# Altium schematic symbol library digital_logic.SchLib: 15 symbols
Pins are listed as number, name and electrical type; pins without a type are passive.

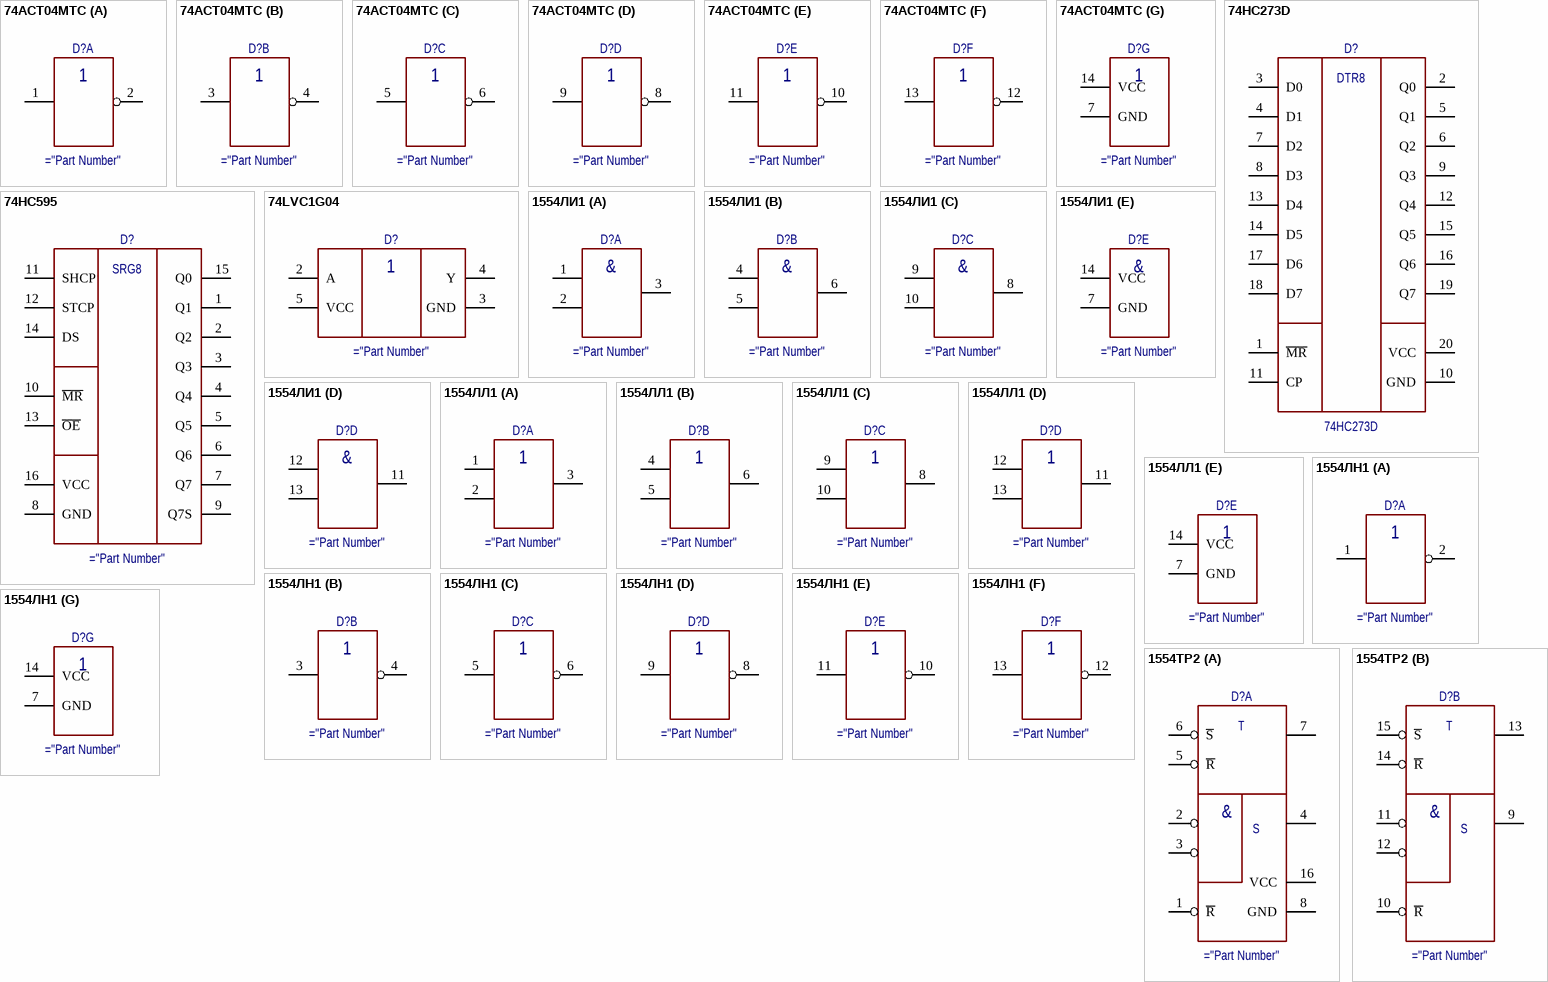
[diagram p0: symbols 74ACT04MTC to 1554ТР2]

## 74ACT04MTC
designator D?
6 элементов НЕ
part A pins: 1 X1, 2 Y1
part B pins: 3 X2, 4 Y2
part C pins: 5 X3, 6 Y3
part D pins: 8 Y4, 9 X4
part E pins: 10 Y5, 11 X5
part F pins: 12 Y6, 13 X6
part G pins: 7 GND, 14 VCC

## 74HC273D
designator D?
Восемь D-триггеров со сбросом; Part number: 74HC273D
pins: 1 ~{MR}, 2 Q0, 3 D0, 4 D1, 5 Q1, 6 Q2, 7 D2, 8 D3, 9 Q3, 10 GND, 11 CP, 12 Q4, 13 D4, 14 D5, 15 Q5, 16 Q6, 17 D6, 18 D7, 19 Q7, 20 VCC
text: DTR8

## 74HC595
designator D?
Shift Register 8-bit
pins: 1 Q1, 2 Q2, 3 Q3, 4 Q4, 5 Q5, 6 Q6, 7 Q7, 8 GND, 9 Q7S, 10 ~{MR}, 11 SHCP, 12 STCP, 13 ~{OE}, 14 DS, 15 Q0, 16 VCC
text: SRG8

## 74LVC1G04
designator D?
Single inverter, single direction
pins: 1 NC hidden, 2 A, 3 GND, 4 Y, 5 VCC

## 1554ЛИ1
designator D?
4 элемента 2И
part A pins: 1 A1, 2 B1, 3 Y1
part B pins: 4 A2, 5 B2, 6 Y2
part C pins: 8 Y3, 9 A3, 10 B3
part D pins: 11 Y4, 12 A4, 13 B4
part E pins: 7 GND, 14 VCC
part A text: &
part B text: &
part C text: &
part D text: &
part E text: &

## 1554ЛЛ1
designator D?
4 элемента 2ИЛИ
part A pins: 1 A1, 2 B1, 3 Y1
part B pins: 4 A2, 5 B2, 6 Y2
part C pins: 8 Y3, 9 A3, 10 B3
part D pins: 11 Y4, 12 A4, 13 B4
part E pins: 7 GND, 14 VCC

## 1554ЛН1
designator D?
6 элементов НЕ
part A pins: 1 X1, 2 Y1
part B pins: 3 X2, 4 Y2
part C pins: 5 X3, 6 Y3
part D pins: 8 Y4, 9 X4
part E pins: 10 Y5, 11 X5
part F pins: 12 Y6, 13 X6
part G pins: 7 GND, 14 VCC

## 1554ТР2
designator D?
4 RS триггера
part A pins: 1 ~{R}, 2 ~{1S1}, 3 ~{1S2}, 4 1Q, 5 ~{R}, 6 ~{S}, 7 2Q, 8 GND, 16 VCC
part B pins: 9 3Q, 10 ~{R}, 11 ~{3S1}, 12 ~{3S2}, 13 4Q, 14 ~{R}, 15 ~{S}
part A text: T; &; S
part B text: T; &; S

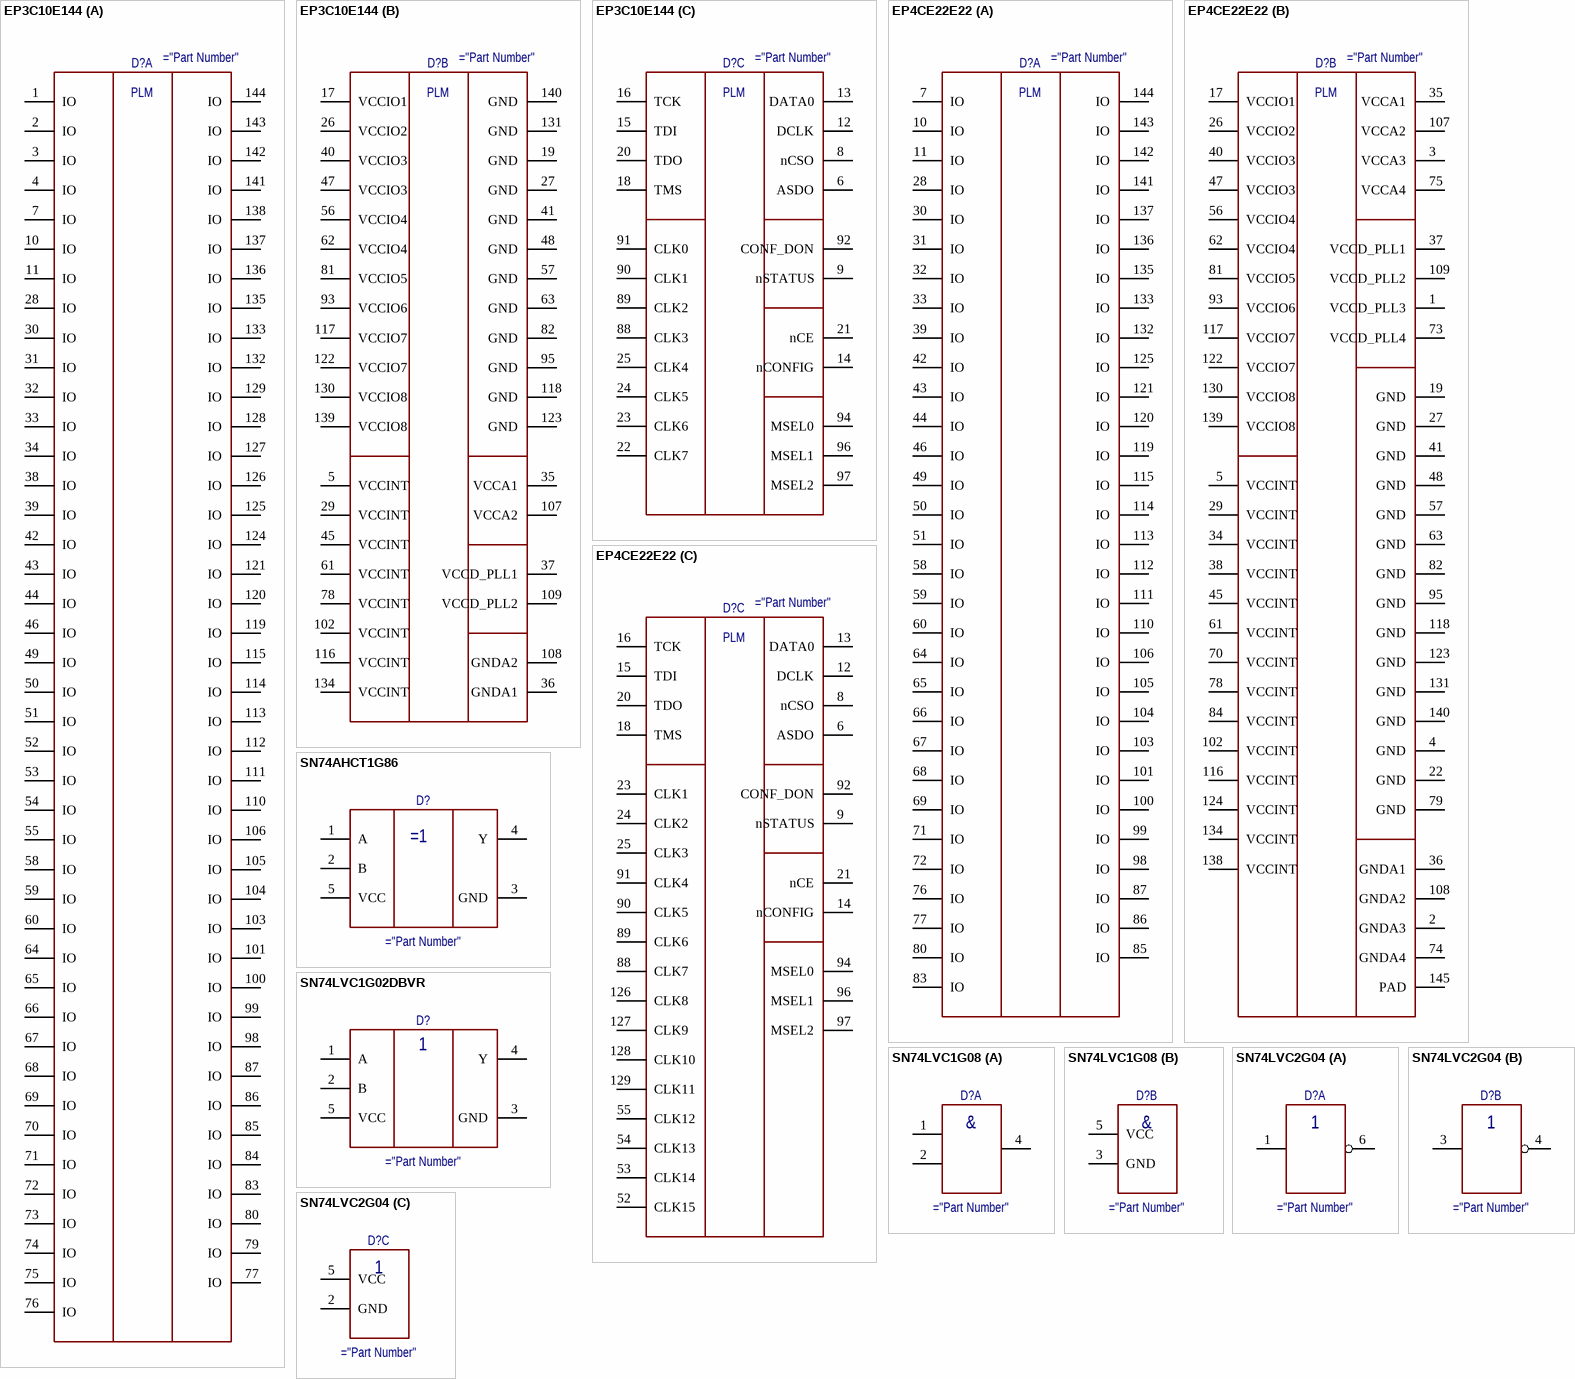
[diagram p1: symbols EP3C10E144 to SN74LVC2G04]

## EP3C10E144
designator D?
FPGA Cyclone III
part A pins: 1 IO, 2 IO, 3 IO, 4 IO, 7 IO, 10 IO, 11 IO, 28 IO, 30 IO, 31 IO, 32 IO, 33 IO, 34 IO, 38 IO, 39 IO, 42 IO, 43 IO, 44 IO, 46 IO, 49 IO, 50 IO, 51 IO, 52 IO, 53 IO, 54 IO, 55 IO, 58 IO, 59 IO, 60 IO, 64 IO, 65 IO, 66 IO, 67 IO, 68 IO, 69 IO, 70 IO, 71 IO, 72 IO, 73 IO, 74 IO, 75 IO, 76 IO, 77 IO, 79 IO, 80 IO, 83 IO, 84 IO, 85 IO, 86 IO, 87 IO, 98 IO, 99 IO, 100 IO, 101 IO, 103 IO, 104 IO, 105 IO, 106 IO, 110 IO, 111 IO, 112 IO, 113 IO, 114 IO, 115 IO, 119 IO, 120 IO, 121 IO, 124 IO, 125 IO, 126 IO, 127 IO, 128 IO, 129 IO, 132 IO, 133 IO, 135 IO, 136 IO, 137 IO, 138 IO, 141 IO, 142 IO, 143 IO, 144 IO
part B pins: 5 VCCINT, 17 VCCIO1, 19 GND, 26 VCCIO2, 27 GND, 29 VCCINT, 35 VCCA1, 36 GNDA1, 37 VCCD_PLL1, 40 VCCIO3, 41 GND, 45 VCCINT, 47 VCCIO3, 48 GND, 56 VCCIO4, 57 GND, 61 VCCINT, 62 VCCIO4, 63 GND, 78 VCCINT, 81 VCCIO5, 82 GND, 93 VCCIO6, 95 GND, 102 VCCINT, 107 VCCA2, 108 GNDA2, 109 VCCD_PLL2, 116 VCCINT, 117 VCCIO7, 118 GND, 122 VCCIO7, 123 GND, 130 VCCIO8, 131 GND, 134 VCCINT, 139 VCCIO8, 140 GND
part C pins: 6 ASDO, 8 nCSO, 9 nSTATUS, 12 DCLK, 13 DATA0, 14 nCONFIG, 15 TDI, 16 TCK, 18 TMS, 20 TDO, 21 nCE, 22 CLK7, 23 CLK6, 24 CLK5, 25 CLK4, 88 CLK3, 89 CLK2, 90 CLK1, 91 CLK0, 92 CONF_DON, 94 MSEL0, 96 MSEL1, 97 MSEL2
part A text: PLM
part B text: PLM
part C text: PLM

## EP4CE22E22
designator D?
FPGA Cyclone IV E
part A pins: 7 IO, 10 IO, 11 IO, 28 IO, 30 IO, 31 IO, 32 IO, 33 IO, 39 IO, 42 IO, 43 IO, 44 IO, 46 IO, 49 IO, 50 IO, 51 IO, 58 IO, 59 IO, 60 IO, 64 IO, 65 IO, 66 IO, 67 IO, 68 IO, 69 IO, 71 IO, 72 IO, 76 IO, 77 IO, 80 IO, 83 IO, 85 IO, 86 IO, 87 IO, 98 IO, 99 IO, 100 IO, 101 IO, 103 IO, 104 IO, 105 IO, 106 IO, 110 IO, 111 IO, 112 IO, 113 IO, 114 IO, 115 IO, 119 IO, 120 IO, 121 IO, 125 IO, 132 IO, 133 IO, 135 IO, 136 IO, 137 IO, 141 IO, 142 IO, 143 IO, 144 IO
part B pins: 1 VCCD_PLL3, 2 GNDA3, 3 VCCA3, 4 GND, 5 VCCINT, 17 VCCIO1, 19 GND, 22 GND, 26 VCCIO2, 27 GND, 29 VCCINT, 34 VCCINT, 35 VCCA1, 36 GNDA1, 37 VCCD_PLL1, 38 VCCINT, 40 VCCIO3, 41 GND, 45 VCCINT, 47 VCCIO3, 48 GND, 56 VCCIO4, 57 GND, 61 VCCINT, 62 VCCIO4, 63 GND, 70 VCCINT, 73 VCCD_PLL4, 74 GNDA4, 75 VCCA4, 78 VCCINT, 79 GND, 81 VCCIO5, 82 GND, 84 VCCINT, 93 VCCIO6, 95 GND, 102 VCCINT, 107 VCCA2, 108 GNDA2, 109 VCCD_PLL2, 116 VCCINT, 117 VCCIO7, 118 GND, 122 VCCIO7, 123 GND, 124 VCCINT, 130 VCCIO8, 131 GND, 134 VCCINT, 138 VCCINT, 139 VCCIO8, 140 GND, 145 PAD
part C pins: 6 ASDO, 8 nCSO, 9 nSTATUS, 12 DCLK, 13 DATA0, 14 nCONFIG, 15 TDI, 16 TCK, 18 TMS, 20 TDO, 21 nCE, 23 CLK1, 24 CLK2, 25 CLK3, 52 CLK15, 53 CLK14, 54 CLK13, 55 CLK12, 88 CLK7, 89 CLK6, 90 CLK5, 91 CLK4, 92 CONF_DON, 94 MSEL0, 96 MSEL1, 97 MSEL2, 126 CLK8, 127 CLK9, 128 CLK10, 129 CLK11
part A text: PLM
part B text: PLM
part C text: PLM

## SN74AHCT1G86
designator D?
Single 2-Input Exclusive-OR Gate
pins: 1 NC hidden, 1 A, 2 B, 3 GND, 4 Y, 5 VCC

## SN74LVC1G02DBVR
designator D?
Single 2-Input NOR Gate
pins: 1 NC hidden, 1 A, 2 B, 3 GND, 4 Y, 5 VCC

## SN74LVC1G08
designator D?
1 элемент 2И
part A pins: 1 A, 2 B, 4 Y
part B pins: 3 GND, 5 VCC
part A text: &
part B text: &

## SN74LVC2G04
designator D?
2 элемента НЕ
part A pins: 1 X1, 6 Y1
part B pins: 3 X2, 4 Y2
part C pins: 2 GND, 5 VCC

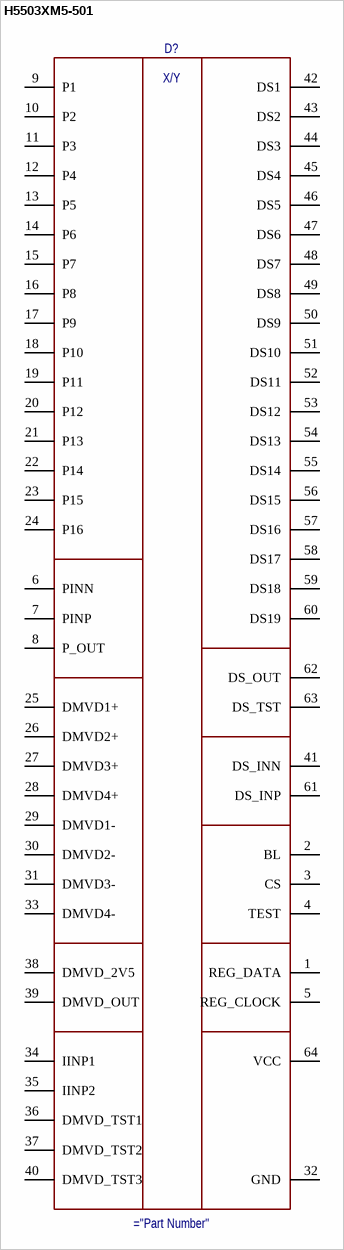
[diagram p2: symbol Н5503ХМ5-501]

## Н5503ХМ5-501
designator D?
Mux
pins: 1 REG_DATA, 2 BL, 3 CS, 4 TEST, 5 REG_CLOCK, 6 PINN, 7 PINP, 8 P_OUT, 9 P1, 10 P2, 11 P3, 12 P4, 13 P5, 14 P6, 15 P7, 16 P8, 17 P9, 18 P10, 19 P11, 20 P12, 21 P13, 22 P14, 23 P15, 24 P16, 25 DMVD1+, 26 DMVD2+, 27 DMVD3+, 28 DMVD4+, 29 DMVD1-, 30 DMVD2-, 31 DMVD3-, 32 GND, 33 DMVD4-, 34 IINP1, 35 IINP2, 36 DMVD_TST1, 37 DMVD_TST2, 38 DMVD_2V5, 39 DMVD_OUT, 40 DMVD_TST3, 41 DS_INN, 42 DS1, 43 DS2, 44 DS3, 45 DS4, 46 DS5, 47 DS6, 48 DS7, 49 DS8, 50 DS9, 51 DS10, 52 DS11, 53 DS12, 54 DS13, 55 DS14, 56 DS15, 57 DS16, 58 DS17, 59 DS18, 60 DS19, 61 DS_INP, 62 DS_OUT, 63 DS_TST, 64 VCC
text: X/Y